# Altium integrated library Analog Devices RF IF Modulators and Demodulators.IntLib: 86 symbols (part 2 of 8)
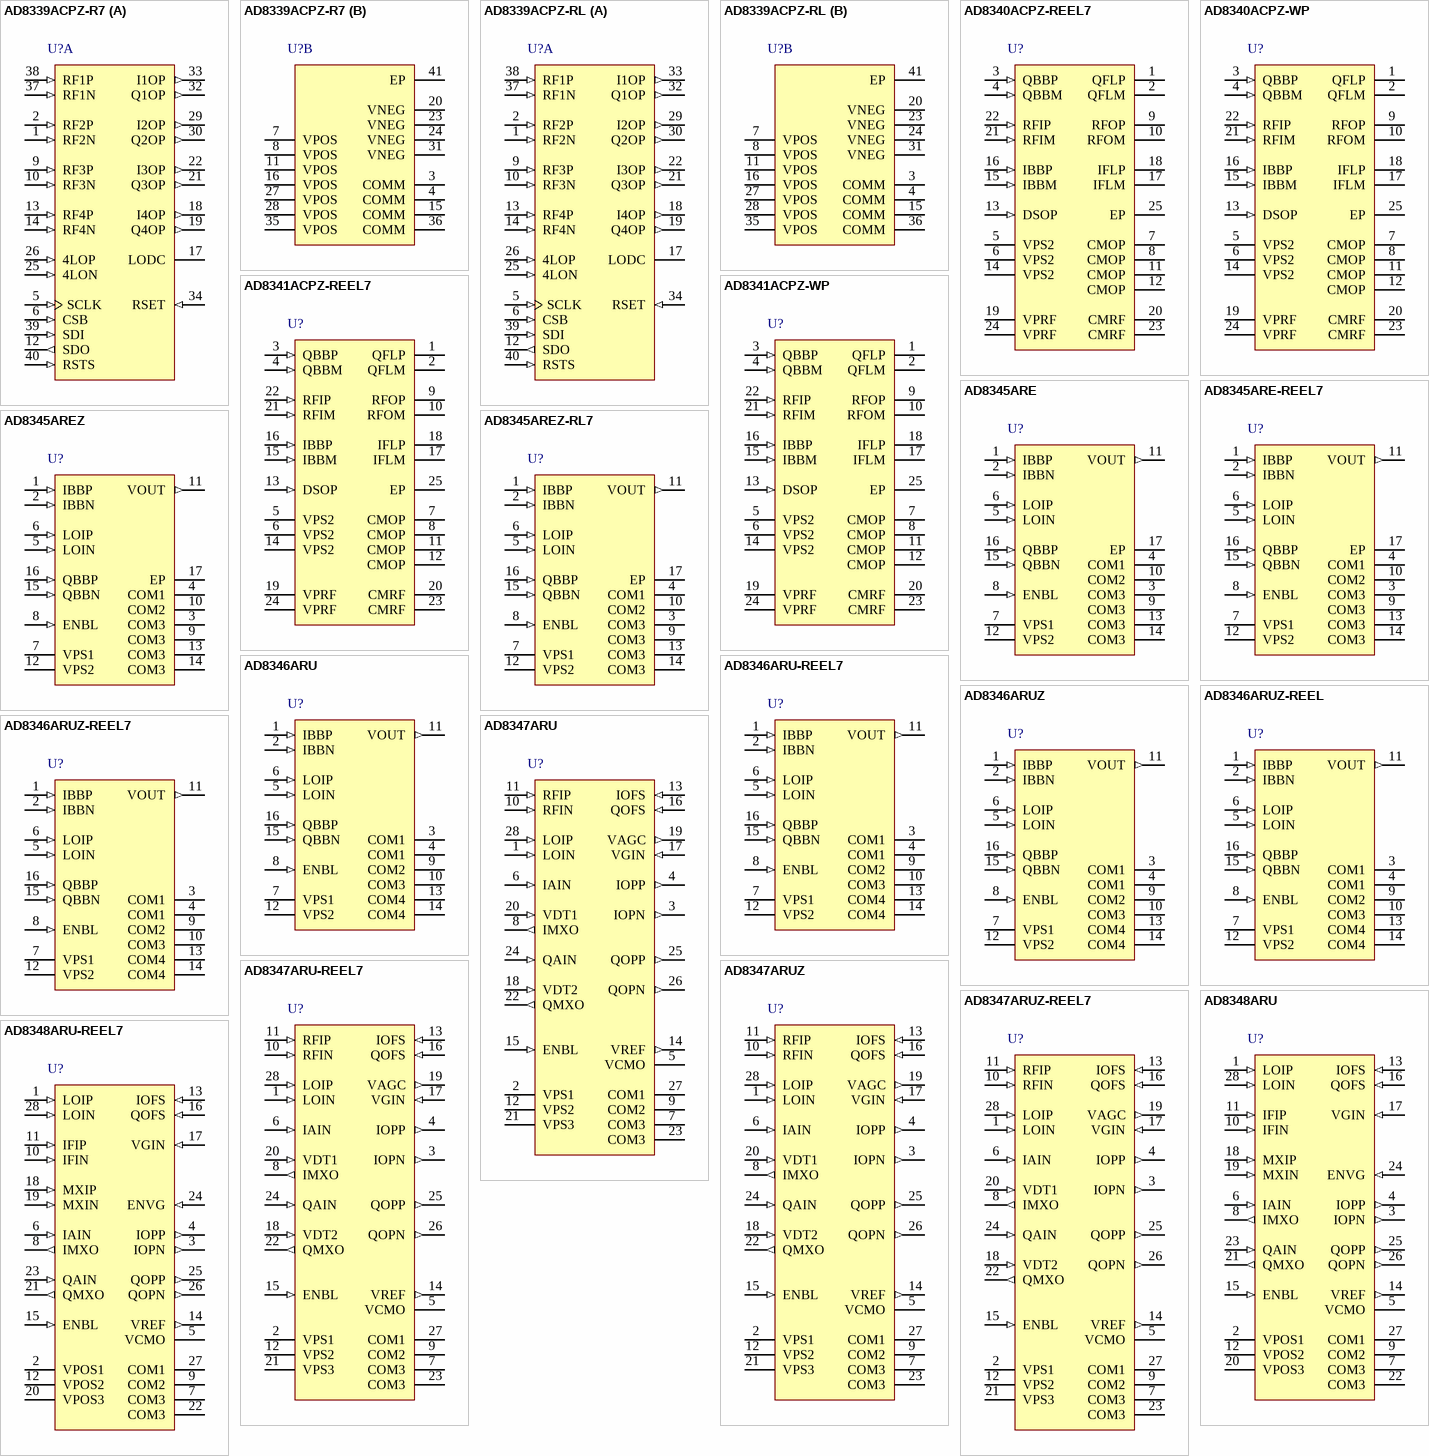
[diagram p6: symbols AD8339ACPZ-R7 to AD8348ARU-REEL7]

## AD8339ACPZ-RL
designator U?
DC to 50 MHz, Quad I/Q Demodulator and Phase Shifter, CP-40-1, Pb-Free, 2500 Reel; Min RF Frequency (MHz): 0Hz; Max RF Frequency (MHz): 50MHz; Phase Error (deg): 1Deg; Amplitude Error (dB): 250mdB; IIP3 (+dBm): 31dBm; DatasheetVersion: Rev. A; PackageVersion: Oct-2006; PackageReference: CP-40-1; PackageDescription: 40-Lead Lead Frame Chip Scale Package [LFCSP_VQ]; IQ Freq (MHz): 50MHz; Code_JEDEC: MO-220-VJJD-2; ComponentLink1Description: Manufacturer URL; ComponentLink1URL: www.analog.com; ComponentLink2Description: Datasheet; ComponentLink2URL: http://www.analog.com/static/imported-files/data_sheets/AD8339.pdf; ComponentLink3Description: Package Specification; ComponentLink3URL: http://www.analog.com/static/imported-files/packages/PKG_PDF/LFCSP(CP)/CP_40_1.pdf
footprint ADI-CP-40-1_N (QFN, 40-Leads, Body 6x6mm, Pitch 0.5mm, Thermal Pad 4.3x4.3mm, IPC Medium Density)
footprint ADI-CP-40-1_L (QFN, 40-Leads, Body 6x6mm, Pitch 0.5mm, Thermal Pad 4.3x4.3mm, IPC High Density)
footprint ADI-CP-40-1_M (QFN, 40-Leads, Body 6x6mm, Pitch 0.5mm, Thermal Pad 4.3x4.3mm, IPC Low Density)
part A pins: 1 RF2N (in) "RF Inputs. Require external 2.5 V bias for optimum symmetrical input differential swing if +/-5 V supplies are used.", 2 RF2P (in) "RF Inputs. Require external 2.5 V bias for optimum symmetrical input differential swing if +/-5 V supplies are used.", 5 SCLK (in) "Serial Interface Clock.", 6 CSB (in) "Serial Interface Chip Select Bar. Active low.", 9 RF3P (in) "RF Inputs. Require external 2.5 V bias for optimum symmetrical input differential swing if +/-5 V supplies are used.", 10 RF3N (in) "RF Inputs. Require external 2.5 V bias for optimum symmetrical input differential swing if +/-5 V supplies are used.", 12 SDO (out) "Serial Interface Data Output. Normally connected to the SDI pin of the next chip or left open.", 13 RF4P (in) "RF Inputs. Require external 2.5 V bias for optimum symmetrical input differential swing if +/-5 V supplies are used.", 14 RF4N (in) "RF Inputs. Require external 2.5 V bias for optimum symmetrical input differential swing if +/-5 V supplies are used.", 17 LODC "Decoupling Pin for LO. A 0.1 uF capacitor should be connected between this pin and ground. The value of this capacitor affects the chip enable/disable times.", 18 I4OP (out) "I/Q Outputs. These outputs provide a bidirectional current that can be converted back to a voltage via a transimpedance amplifier.[see datasheet]", 19 Q4OP (out) "I/Q Outputs. These outputs provide a bidirectional current that can be converted back to a voltage via a transimpedance amplifier.[see datasheet]", 21 Q3OP (out) "I/Q Outputs. These outputs provide a bidirectional current that can be converted back to a voltage via a transimpedance amplifier.[see datasheet]", 22 I3OP (out) "I/Q Outputs. These outputs provide a bidirectional current that can be converted back to a voltage via a transimpedance amplifier.[see datasheet]", 25 4LON (in) "LO Inputs. No internal bias; optimally biased by an LVDS driver. For best performance, these inputs should be driven differentially.[see datasheet]", 26 4LOP (in) "LO Inputs. No internal bias; optimally biased by an LVDS driver. For best performance, these inputs should be driven differentially.[see datasheet]", 29 I2OP (out) "I/Q Outputs. These outputs provide a bidirectional current that can be converted back to a voltage via a transimpedance amplifier.[see datasheet]", 30 Q2OP (out) "I/Q Outputs. These outputs provide a bidirectional current that can be converted back to a voltage via a transimpedance amplifier.[see datasheet]", 32 Q1OP (out) "I/Q Outputs. These outputs provide a bidirectional current that can be converted back to a voltage via a transimpedance amplifier.[see datasheet]", 33 I1OP (out) "I/Q Outputs. These outputs provide a bidirectional current that can be converted back to a voltage via a transimpedance amplifier.[see datasheet]", 34 RSET (in) "Reset for LO Interface. Logic threshold is at ~1.3 V and therefore can be driven by >1.8 V CMOS logic.", 37 RF1N (in) "RF Inputs. Require external 2.5 V bias for optimum symmetrical input differential swing if +/-5 V supplies are used.", 38 RF1P (in) "RF Inputs. Require external 2.5 V bias for optimum symmetrical input differential swing if +/-5 V supplies are used.", 39 SDI (in) "Serial Interface Data Input. Logic threshold is at ~1.3 V and therefore can be driven by >1.8 V CMOS logic.", 40 RSTS (in) "Reset for SPI Interface. Logic threshold is at ~1.5 V with +/-0.3 V hysteresis and should be driven by >3.3 V CMOS logic.[see dstssheet]"
part B pins: 3 COMM (power) "Ground.", 4 COMM (power) "Ground.", 7 VPOS (power) "Positive Supply. These pins should be decoupled with a ferrite bead in series with the supply and a 0.1 uF capacitor between the VPOS pins and ground.[see datasheet]", 8 VPOS (power) "Positive Supply. These pins should be decoupled with a ferrite bead in series with the supply and a 0.1 uF capacitor between the VPOS pins and ground. [see datasheet]", 11 VPOS (power) "Positive Supply. These pins should be decoupled with a ferrite bead in series with the supply and a 0.1 uF capacitor between the VPOS pins and ground.[see datasheet]", 15 COMM (power) "Ground.", 16 VPOS (power) "Positive Supply. These pins should be decoupled with a ferrite bead in series with the supply and a 0.1 uF capacitor between the VPOS pins and ground.[see datasheet]", 20 VNEG (power) "Negative Supply. These pins should be decoupled with a ferrite bead in series with the supply and a 0.1 uF capacitor between the VNEG pins and ground.[see datasheet]", 23 VNEG (power) "Negative Supply. These pins should be decoupled with a ferrite bead in series with the supply and a 0.1 uF capacitor between the VNEG pins and ground.[see datasheet]", 24 VNEG (power) "Negative Supply. These pins should be decoupled with a ferrite bead in series with the supply and a 0.1 uF capacitor between the VNEG pins and ground.[see datasheet]", 27 VPOS (power) "Positive Supply. These pins should be decoupled with a ferrite bead in series with the supply and a 0.1 uF capacitor between the VPOS pins and ground. [see datasheet]", 28 VPOS (power) "Positive Supply. These pins should be decoupled with a ferrite bead in series with the supply and a 0.1 uF capacitor between the VPOS pins and ground. [see datasheet]", 31 VNEG (power) "Negative Supply. These pins should be decoupled with a ferrite bead in series with the supply and a 0.1 uF capacitor between the VNEG pins and ground.[see datasheet]", 35 VPOS (power) "Positive Supply. These pins should be decoupled with a ferrite bead in series with the supply and a 0.1 uF capacitor between the VPOS pins and ground.[see datasheet]", 36 COMM (power) "Ground.", 41 EP (power) "Exposed Pad. The exposed pad is not connected internally.[see dstssheet]"

## AD8340ACPZ-REEL7
designator U?
700 MHz to 1000 MHz RF Vector Modulator, CP-24-1, Pb-Free, 1500 	Reel; Min RF Frequency (MHz): 700MHz; Max RF Frequency (MHz): 1GHz; IQ Freq (MHz): 230MHz; Output P1dB (dBm): 11; DatasheetVersion: RevB; PackageVersion: May-2004; PackageReference: CP-24-1; PackageDescription: 24-Lead Lead Frame Chip Scale Package [LFCSP]; Code_JEDEC: MO-220-VGGD-2; ComponentLink1Description: Manufacturer URL; ComponentLink1URL: www.analog.com; ComponentLink2Description: Datasheet; ComponentLink2URL: http://www.analog.com/static/imported-files/data_sheets/AD8340.pdf; ComponentLink3Description: Package Specification; ComponentLink3URL: http://www.analog.com/static/imported-files/packages/CP_24_1.pdf
footprint ADI-CP-24-1_N (QFN, 24-Leads, Body 4x4mm, Pitch 0.5mm, Thermal Pad 2.1x2.1mm, IPC Medium Density)
footprint ADI-CP-24-1_L (QFN, 24-Leads, Body 4x4mm, Pitch 0.5mm, Thermal Pad 2.1x2.1mm, IPC High Density)
footprint ADI-CP-24-1_M (QFN, 24-Leads, Body 4x4mm, Pitch 0.5mm, Thermal Pad 2.1x2.1mm, IPC Low Density)
pins: 1 QFLP "Q Baseband Input Filter Pins. Connect optional capacitor to reduce Q baseband channel low-pass corner frequency.", 2 QFLM "Q Baseband Input Filter Pins. Connect optional capacitor to reduce Q baseband channel low-pass corner frequency.", 3 QBBP (in) "Q Channel Differential Baseband Inputs.", 4 QBBM (in) "Q Channel Differential Baseband Inputs.", 5 VPS2 (power) "Positive Supply Voltage, 4.75 V to 5.25 V.", 6 VPS2 (power) "Positive Supply Voltage, 4.75 V to 5.25 V.", 7 CMOP (power) "Device Common. Connect via lowest possible impedance to external circuit common.", 8 CMOP (power) "Device Common. Connect via lowest possible impedance to external circuit common.", 9 RFOP (oc) "Differential RF Outputs. Must be ac-coupled. Differential impedance 50  ohm nominal.", 10 RFOM (oc) "Differential RF Outputs. Must be ac-coupled. Differential impedance 50  ohm nominal.", 11 CMOP (power) "Device Common. Connect via lowest possible impedance to external circuit common.", 12 CMOP (power) "Device Common. Connect via lowest possible impedance to external circuit common.", 13 DSOP (in) "Output Disable. Pull high to disable output stage.", 14 VPS2 (power) "Positive Supply Voltage, 4.75 V to 5.25 V.", 15 IBBM (in) "I Channel Differential Baseband Inputs.", 16 IBBP (in) "I Channel Differential Baseband Inputs.", 17 IFLM "I Baseband Input Filter Pins. Connect optional capacitor to reduce I baseband channel low-pass corner frequency.", 18 IFLP "I Baseband Input Filter Pins. Connect optional capacitor to reduce I baseband channel low-pass corner frequency.", 19 VPRF (power) "Positive Supply Voltage, 4.75 V to 5.25 V.", 20 CMRF (power) "Device Common. Connect via lowest possible impedance to external circuit common.", 21 RFIM (in) "Differential RF Inputs. Must be ac-coupled. Differential impedance 50  ohm nominal.", 22 RFIP (in) "Differential RF Inputs. Must be ac-coupled. Differential impedance 50  ohm nominal.", 23 CMRF (power) "Device Common. Connect via lowest possible impedance to external circuit common.", 24 VPRF (power) "Positive Supply Voltage, 4.75 V to 5.25 V.", 25 EP (power) "Exposed Pad"

## AD8340ACPZ-WP
designator U?
700 MHz to 1000 MHz RF Vector Modulator, CP-24-1, Pb-Free, 64 	Tray; Min RF Frequency (MHz): 700MHz; Max RF Frequency (MHz): 1GHz; IQ Freq (MHz): 230MHz; Output P1dB (dBm): 11; DatasheetVersion: RevB; PackageVersion: May-2004; PackageReference: CP-24-1; PackageDescription: 24-Lead Lead Frame Chip Scale Package [LFCSP]; Code_JEDEC: MO-220-VGGD-2; ComponentLink1Description: Manufacturer URL; ComponentLink1URL: www.analog.com; ComponentLink2Description: Datasheet; ComponentLink2URL: http://www.analog.com/static/imported-files/data_sheets/AD8340.pdf; ComponentLink3Description: Package Specification; ComponentLink3URL: http://www.analog.com/static/imported-files/packages/CP_24_1.pdf
footprint ADI-CP-24-1_N (QFN, 24-Leads, Body 4x4mm, Pitch 0.5mm, Thermal Pad 2.1x2.1mm, IPC Medium Density)
footprint ADI-CP-24-1_L (QFN, 24-Leads, Body 4x4mm, Pitch 0.5mm, Thermal Pad 2.1x2.1mm, IPC High Density)
footprint ADI-CP-24-1_M (QFN, 24-Leads, Body 4x4mm, Pitch 0.5mm, Thermal Pad 2.1x2.1mm, IPC Low Density)
pins: 1 QFLP "Q Baseband Input Filter Pins. Connect optional capacitor to reduce Q baseband channel low-pass corner frequency.", 2 QFLM "Q Baseband Input Filter Pins. Connect optional capacitor to reduce Q baseband channel low-pass corner frequency.", 3 QBBP (in) "Q Channel Differential Baseband Inputs.", 4 QBBM (in) "Q Channel Differential Baseband Inputs.", 5 VPS2 (power) "Positive Supply Voltage, 4.75 V to 5.25 V.", 6 VPS2 (power) "Positive Supply Voltage, 4.75 V to 5.25 V.", 7 CMOP (power) "Device Common. Connect via lowest possible impedance to external circuit common.", 8 CMOP (power) "Device Common. Connect via lowest possible impedance to external circuit common.", 9 RFOP (oc) "Differential RF Outputs. Must be ac-coupled. Differential impedance 50  ohm nominal.", 10 RFOM (oc) "Differential RF Outputs. Must be ac-coupled. Differential impedance 50  ohm nominal.", 11 CMOP (power) "Device Common. Connect via lowest possible impedance to external circuit common.", 12 CMOP (power) "Device Common. Connect via lowest possible impedance to external circuit common.", 13 DSOP (in) "Output Disable. Pull high to disable output stage.", 14 VPS2 (power) "Positive Supply Voltage, 4.75 V to 5.25 V.", 15 IBBM (in) "I Channel Differential Baseband Inputs.", 16 IBBP (in) "I Channel Differential Baseband Inputs.", 17 IFLM "I Baseband Input Filter Pins. Connect optional capacitor to reduce I baseband channel low-pass corner frequency.", 18 IFLP "I Baseband Input Filter Pins. Connect optional capacitor to reduce I baseband channel low-pass corner frequency.", 19 VPRF (power) "Positive Supply Voltage, 4.75 V to 5.25 V.", 20 CMRF (power) "Device Common. Connect via lowest possible impedance to external circuit common.", 21 RFIM (in) "Differential RF Inputs. Must be ac-coupled. Differential impedance 50  ohm nominal.", 22 RFIP (in) "Differential RF Inputs. Must be ac-coupled. Differential impedance 50  ohm nominal.", 23 CMRF (power) "Device Common. Connect via lowest possible impedance to external circuit common.", 24 VPRF (power) "Positive Supply Voltage, 4.75 V to 5.25 V.", 25 EP (power) "Exposed Pad"

## AD8341ACPZ-REEL7
designator U?
1.5 GHz to 2.4 GHz RF Vector Modulator, CP-24-1, Pb-Free, 1500 	Reel; Min RF Frequency (MHz): 1.5GHz; Max RF Frequency (MHz): 2.4GHz; IQ Freq (MHz): 230MHz; Output P1dB (dBm): 8.5; DatasheetVersion: Rev0; PackageVersion: May-2004; PackageReference: CP-24-1; PackageDescription: 24-Lead Lead Frame Chip Scale Package [LFCSP]; Code_JEDEC: MO-220-VGGD-2; ComponentLink1Description: Manufacturer URL; ComponentLink1URL: www.analog.com; ComponentLink2Description: Datasheet; ComponentLink2URL: http://www.analog.com/static/imported-files/data_sheets/AD8341.pdf; ComponentLink3Description: Package Specification; ComponentLink3URL: http://www.analog.com/static/imported-files/packages/CP_24_1.pdf
footprint ADI-CP-24-1_N (QFN, 24-Leads, Body 4x4mm, Pitch 0.5mm, Thermal Pad 2.1x2.1mm, IPC Medium Density)
footprint ADI-CP-24-1_L (QFN, 24-Leads, Body 4x4mm, Pitch 0.5mm, Thermal Pad 2.1x2.1mm, IPC High Density)
footprint ADI-CP-24-1_M (QFN, 24-Leads, Body 4x4mm, Pitch 0.5mm, Thermal Pad 2.1x2.1mm, IPC Low Density)
pins: 1 QFLP "Q Baseband Input Filter Pins. Connect optional capacitor to reduce Q baseband channel low-pass corner frequency.", 2 QFLM "Q Baseband Input Filter Pins. Connect optional capacitor to reduce Q baseband channel low-pass corner frequency.", 3 QBBP (in) "Q Channel Differential Baseband Inputs.", 4 QBBM (in) "Q Channel Differential Baseband Inputs.", 5 VPS2 (power) "Positive Supply Voltage. 4.75 V - 5.25 V.", 6 VPS2 (power) "Positive Supply Voltage. 4.75 V - 5.25 V.", 7 CMOP (power) "Device Common. Connect via lowest possible impedance to external circuit common.", 8 CMOP (power) "Device Common. Connect via lowest possible impedance to external circuit common.", 9 RFOP (oc) "Differential RF Outputs. Must be ac-coupled. Differential impedance 50  ohm nominal.", 10 RFOM (oc) "Differential RF Outputs. Must be ac-coupled. Differential impedance 50  ohm nominal.", 11 CMOP (power) "Device Common. Connect via lowest possible impedance to external circuit common.", 12 CMOP (power) "Device Common. Connect via lowest possible impedance to external circuit common.", 13 DSOP (in) "Output disable. Pull high to disable output stage.", 14 VPS2 (power) "Positive Supply Voltage. 4.75 V - 5.25 V.", 15 IBBM (in) "I Channel Differential Baseband Inputs.", 16 IBBP (in) "I Channel Differential Baseband Inputs.", 17 IFLM "I Baseband Input Filter Pins. Connect optional capacitor to reduce I baseband channel low-pass corner frequency.", 18 IFLP "I Baseband Input Filter Pins. Connect optional capacitor to reduce I baseband channel low-pass corner frequency.", 19 VPRF (power) "Positive Supply Voltage. 4.75 V - 5.25 V.", 20 CMRF (power) "Device Common. Connect via lowest possible impedance to external circuit common.", 21 RFIM (in) "Differential RF Inputs. Must be ac-coupled. Differential impedance 50  ohm nominal.", 22 RFIP (in) "Differential RF Inputs. Must be ac-coupled. Differential impedance 50  ohm nominal.", 23 CMRF (power) "Device Common. Connect via lowest possible impedance to external circuit common.", 24 VPRF (power) "Positive Supply Voltage. 4.75 V - 5.25 V.", 25 EP (power) "Exposed Pad"

## AD8341ACPZ-WP
designator U?
1.5 GHz to 2.4 GHz RF Vector Modulator, CP-24-1, Pb-Free, 64 	Tray; Min RF Frequency (MHz): 1.5GHz; Max RF Frequency (MHz): 2.4GHz; IQ Freq (MHz): 230MHz; Output P1dB (dBm): 8.5; DatasheetVersion: Rev0; PackageVersion: May-2004; PackageReference: CP-24-1; PackageDescription: 24-Lead Lead Frame Chip Scale Package [LFCSP]; Code_JEDEC: MO-220-VGGD-2; ComponentLink1Description: Manufacturer URL; ComponentLink1URL: www.analog.com; ComponentLink2Description: Datasheet; ComponentLink2URL: http://www.analog.com/static/imported-files/data_sheets/AD8341.pdf; ComponentLink3Description: Package Specification; ComponentLink3URL: http://www.analog.com/static/imported-files/packages/CP_24_1.pdf
footprint ADI-CP-24-1_N (QFN, 24-Leads, Body 4x4mm, Pitch 0.5mm, Thermal Pad 2.1x2.1mm, IPC Medium Density)
footprint ADI-CP-24-1_L (QFN, 24-Leads, Body 4x4mm, Pitch 0.5mm, Thermal Pad 2.1x2.1mm, IPC High Density)
footprint ADI-CP-24-1_M (QFN, 24-Leads, Body 4x4mm, Pitch 0.5mm, Thermal Pad 2.1x2.1mm, IPC Low Density)
pins: 1 QFLP "Q Baseband Input Filter Pins. Connect optional capacitor to reduce Q baseband channel low-pass corner frequency.", 2 QFLM "Q Baseband Input Filter Pins. Connect optional capacitor to reduce Q baseband channel low-pass corner frequency.", 3 QBBP (in) "Q Channel Differential Baseband Inputs.", 4 QBBM (in) "Q Channel Differential Baseband Inputs.", 5 VPS2 (power) "Positive Supply Voltage. 4.75 V - 5.25 V.", 6 VPS2 (power) "Positive Supply Voltage. 4.75 V - 5.25 V.", 7 CMOP (power) "Device Common. Connect via lowest possible impedance to external circuit common.", 8 CMOP (power) "Device Common. Connect via lowest possible impedance to external circuit common.", 9 RFOP (oc) "Differential RF Outputs. Must be ac-coupled. Differential impedance 50  ohm nominal.", 10 RFOM (oc) "Differential RF Outputs. Must be ac-coupled. Differential impedance 50  ohm nominal.", 11 CMOP (power) "Device Common. Connect via lowest possible impedance to external circuit common.", 12 CMOP (power) "Device Common. Connect via lowest possible impedance to external circuit common.", 13 DSOP (in) "Output disable. Pull high to disable output stage.", 14 VPS2 (power) "Positive Supply Voltage. 4.75 V - 5.25 V.", 15 IBBM (in) "I Channel Differential Baseband Inputs.", 16 IBBP (in) "I Channel Differential Baseband Inputs.", 17 IFLM "I Baseband Input Filter Pins. Connect optional capacitor to reduce I baseband channel low-pass corner frequency.", 18 IFLP "I Baseband Input Filter Pins. Connect optional capacitor to reduce I baseband channel low-pass corner frequency.", 19 VPRF (power) "Positive Supply Voltage. 4.75 V - 5.25 V.", 20 CMRF (power) "Device Common. Connect via lowest possible impedance to external circuit common.", 21 RFIM (in) "Differential RF Inputs. Must be ac-coupled. Differential impedance 50  ohm nominal.", 22 RFIP (in) "Differential RF Inputs. Must be ac-coupled. Differential impedance 50  ohm nominal.", 23 CMRF (power) "Device Common. Connect via lowest possible impedance to external circuit common.", 24 VPRF (power) "Positive Supply Voltage. 4.75 V - 5.25 V.", 25 EP (power) "Exposed Pad"

## AD8345ARE
designator U?
140 MHz to 1000 MHz Quadrature Modulator, RE-16-2, 96 Tube; Min RF Frequency (MHz): 140MHz; Max RF Frequency (MHz): 1GHz; IQ Freq (MHz): 80MHz; Output P1dB (dBm): 2.5; DatasheetVersion: RevB; PackageVersion: 050806-A; PackageReference: RE-16-2; PackageDescription: 16-Lead Thin Shrink Small Outline With Exposed Pad [TSSOP_EP]; Code_JEDEC: MO-153-ABT; ComponentLink1Description: Manufacturer URL; ComponentLink1URL: www.analog.com; ComponentLink2Description: Datasheet; ComponentLink2URL: http://www.analog.com/static/imported-files/data_sheets/AD8345.pdf; ComponentLink3Description: Package Specification; ComponentLink3URL: http://www.analog.com/static/imported-files/packages/PKG_PDF/TSSOP_EP(RE)/RE_16_2.pdf
footprint ADI-RE-16-2_N (TSOP, 16-Leads, Body 5x4.4mm, Pitch 0.65mm, Thermal Pad, IPC Medium Density)
footprint ADI-RE-16-2_L (TSOP, 16-Leads, Body 5x4.4mm, Pitch 0.65mm, Thermal Pad, IPC High Density)
footprint ADI-RE-16-2_M (TSOP, 16-Leads, Body 5x4.4mm, Pitch 0.65mm, Thermal Pad, IPC Low Density)
pins: 1 IBBP (in) "I Channel Baseband Differential Input Pins. These high impedance inputs should be dc-biased to approximately 0.7 V. Nominal characterized ac swing is 0.6 V p-p on each pin (0.4 V to 1 V). [see datasheet]", 2 IBBN (in) "I Channel Baseband Differential Input Pins. These high impedance inputs should be dc-biased to approximately 0.7 V. Nominal characterized ac swing is 0.6 V p-p on each pin (0.4 V to 1 V). [see datasheet]", 3 COM3 (power) "Ground Pin for Input V-to-I Converters and Mixer Core.", 4 COM1 (power) "Ground Pin for the LO Phase Splitter and LO Buffers.", 5 LOIN (in) "Differential LO Drive Pins. Internal dc bias (approximately 1.8 V @ VS = 5 V) is supplied. Pins must be ac-coupled. Single-ended or differential drive is permissible.", 6 LOIP (in) "Differential LO Drive Pins. Internal dc bias (approximately 1.8 V @ VS = 5 V) is supplied. Pins must be ac-coupled. Single-ended or differential drive is permissible.", 7 VPS1 (power) "Power Supply Pin for the Bias Cell and LO Buffers. This pin should be decoupled using local 1000 pF and 0.01 uF capacitors.", 8 ENBL (in) "Enable Pin. A high level enables the device; a low level puts the device in sleep mode.", 9 COM3 (power) "Ground Pin for Input V-to-I Converters and Mixer Core.", 10 COM2 (power) "Ground Pin for the Output Stage of Output Amplifier.", 11 VOUT (out) "50  ohm DC-Coupled RF Output. Pin should be ac-coupled.", 12 VPS2 (power) "Power Supply Pin for Baseband Input Voltage to Current Converters and Mixer Core. This pin should be decoupled using local 1000 pF and 0.01 uF capacitors.", 13 COM3 (power) "Ground Pin for Input V-to-I Converters and Mixer Core.", 14 COM3 (power) "Ground Pin for Input V-to-I Converters and Mixer Core.", 15 QBBN (in) "Q Channel Baseband Differential Input Pins. Inputs should be dc-biased to approxi-mately 0.7 V. Nominal characterized ac swing is 0.6 V p-p on each pin (0.4 V to 1 V). This gives a differential drive level of 1.2 V p-p. Inputs are not self-biasing, so ex", 16 QBBP (in) "Q Channel Baseband Differential Input Pins. Inputs should be dc-biased to approxi-mately 0.7 V. Nominal characterized ac swing is 0.6 V p-p on each pin (0.4 V to 1 V). This gives a differential drive level of 1.2 V p-p. Inputs are not self-biasing, so ex", 17 EP (power) "Connect to ground plane via a low impedance path."

## AD8345ARE-REEL7
designator U?
140 MHz to 1000 MHz Quadrature Modulator, RE-16-2, 1000 Reel; Min RF Frequency (MHz): 140MHz; Max RF Frequency (MHz): 1GHz; IQ Freq (MHz): 80MHz; Output P1dB (dBm): 2.5; DatasheetVersion: RevB; PackageVersion: 050806-A; PackageReference: RE-16-2; PackageDescription: 16-Lead Thin Shrink Small Outline With Exposed Pad [TSSOP_EP]; Code_JEDEC: MO-153-ABT; ComponentLink1Description: Manufacturer URL; ComponentLink1URL: www.analog.com; ComponentLink2Description: Datasheet; ComponentLink2URL: http://www.analog.com/static/imported-files/data_sheets/AD8345.pdf; ComponentLink3Description: Package Specification; ComponentLink3URL: http://www.analog.com/static/imported-files/packages/PKG_PDF/TSSOP_EP(RE)/RE_16_2.pdf
footprint ADI-RE-16-2_N (TSOP, 16-Leads, Body 5x4.4mm, Pitch 0.65mm, Thermal Pad, IPC Medium Density)
footprint ADI-RE-16-2_L (TSOP, 16-Leads, Body 5x4.4mm, Pitch 0.65mm, Thermal Pad, IPC High Density)
footprint ADI-RE-16-2_M (TSOP, 16-Leads, Body 5x4.4mm, Pitch 0.65mm, Thermal Pad, IPC Low Density)
pins: 1 IBBP (in) "I Channel Baseband Differential Input Pins. These high impedance inputs should be dc-biased to approximately 0.7 V. Nominal characterized ac swing is 0.6 V p-p on each pin (0.4 V to 1 V). [see datasheet]", 2 IBBN (in) "I Channel Baseband Differential Input Pins. These high impedance inputs should be dc-biased to approximately 0.7 V. Nominal characterized ac swing is 0.6 V p-p on each pin (0.4 V to 1 V). [see datasheet]", 3 COM3 (power) "Ground Pin for Input V-to-I Converters and Mixer Core.", 4 COM1 (power) "Ground Pin for the LO Phase Splitter and LO Buffers.", 5 LOIN (in) "Differential LO Drive Pins. Internal dc bias (approximately 1.8 V @ VS = 5 V) is supplied. Pins must be ac-coupled. Single-ended or differential drive is permissible.", 6 LOIP (in) "Differential LO Drive Pins. Internal dc bias (approximately 1.8 V @ VS = 5 V) is supplied. Pins must be ac-coupled. Single-ended or differential drive is permissible.", 7 VPS1 (power) "Power Supply Pin for the Bias Cell and LO Buffers. This pin should be decoupled using local 1000 pF and 0.01 uF capacitors.", 8 ENBL (in) "Enable Pin. A high level enables the device; a low level puts the device in sleep mode.", 9 COM3 (power) "Ground Pin for Input V-to-I Converters and Mixer Core.", 10 COM2 (power) "Ground Pin for the Output Stage of Output Amplifier.", 11 VOUT (out) "50  ohm DC-Coupled RF Output. Pin should be ac-coupled.", 12 VPS2 (power) "Power Supply Pin for Baseband Input Voltage to Current Converters and Mixer Core. This pin should be decoupled using local 1000 pF and 0.01 uF capacitors.", 13 COM3 (power) "Ground Pin for Input V-to-I Converters and Mixer Core.", 14 COM3 (power) "Ground Pin for Input V-to-I Converters and Mixer Core.", 15 QBBN (in) "Q Channel Baseband Differential Input Pins. Inputs should be dc-biased to approxi-mately 0.7 V. Nominal characterized ac swing is 0.6 V p-p on each pin (0.4 V to 1 V). This gives a differential drive level of 1.2 V p-p. Inputs are not self-biasing, so ex", 16 QBBP (in) "Q Channel Baseband Differential Input Pins. Inputs should be dc-biased to approxi-mately 0.7 V. Nominal characterized ac swing is 0.6 V p-p on each pin (0.4 V to 1 V). This gives a differential drive level of 1.2 V p-p. Inputs are not self-biasing, so ex", 17 EP (power) "Connect to ground plane via a low impedance path."

## AD8345AREZ
designator U?
140 MHz to 1000 MHz Quadrature Modulator, RE-16-2, Pb-Free, 96 Tube; Min RF Frequency (MHz): 140MHz; Max RF Frequency (MHz): 1GHz; IQ Freq (MHz): 80MHz; Output P1dB (dBm): 2.5; DatasheetVersion: RevB; PackageVersion: 050806-A; PackageReference: RE-16-2; PackageDescription: 16-Lead Thin Shrink Small Outline With Exposed Pad [TSSOP_EP]; Code_JEDEC: MO-153-ABT; ComponentLink1Description: Manufacturer URL; ComponentLink1URL: www.analog.com; ComponentLink2Description: Datasheet; ComponentLink2URL: http://www.analog.com/static/imported-files/data_sheets/AD8345.pdf; ComponentLink3Description: Package Specification; ComponentLink3URL: http://www.analog.com/static/imported-files/packages/PKG_PDF/TSSOP_EP(RE)/RE_16_2.pdf
footprint ADI-RE-16-2_N (TSOP, 16-Leads, Body 5x4.4mm, Pitch 0.65mm, Thermal Pad, IPC Medium Density)
footprint ADI-RE-16-2_L (TSOP, 16-Leads, Body 5x4.4mm, Pitch 0.65mm, Thermal Pad, IPC High Density)
footprint ADI-RE-16-2_M (TSOP, 16-Leads, Body 5x4.4mm, Pitch 0.65mm, Thermal Pad, IPC Low Density)
pins: 1 IBBP (in) "I Channel Baseband Differential Input Pins. These high impedance inputs should be dc-biased to approximately 0.7 V. Nominal characterized ac swing is 0.6 V p-p on each pin (0.4 V to 1 V). [see datasheet]", 2 IBBN (in) "I Channel Baseband Differential Input Pins. These high impedance inputs should be dc-biased to approximately 0.7 V. Nominal characterized ac swing is 0.6 V p-p on each pin (0.4 V to 1 V). [see datasheet]", 3 COM3 (power) "Ground Pin for Input V-to-I Converters and Mixer Core.", 4 COM1 (power) "Ground Pin for the LO Phase Splitter and LO Buffers.", 5 LOIN (in) "Differential LO Drive Pins. Internal dc bias (approximately 1.8 V @ VS = 5 V) is supplied. Pins must be ac-coupled. Single-ended or differential drive is permissible.", 6 LOIP (in) "Differential LO Drive Pins. Internal dc bias (approximately 1.8 V @ VS = 5 V) is supplied. Pins must be ac-coupled. Single-ended or differential drive is permissible.", 7 VPS1 (power) "Power Supply Pin for the Bias Cell and LO Buffers. This pin should be decoupled using local 1000 pF and 0.01 uF capacitors.", 8 ENBL (in) "Enable Pin. A high level enables the device; a low level puts the device in sleep mode.", 9 COM3 (power) "Ground Pin for Input V-to-I Converters and Mixer Core.", 10 COM2 (power) "Ground Pin for the Output Stage of Output Amplifier.", 11 VOUT (out) "50  ohm DC-Coupled RF Output. Pin should be ac-coupled.", 12 VPS2 (power) "Power Supply Pin for Baseband Input Voltage to Current Converters and Mixer Core. This pin should be decoupled using local 1000 pF and 0.01 uF capacitors.", 13 COM3 (power) "Ground Pin for Input V-to-I Converters and Mixer Core.", 14 COM3 (power) "Ground Pin for Input V-to-I Converters and Mixer Core.", 15 QBBN (in) "Q Channel Baseband Differential Input Pins. Inputs should be dc-biased to approxi-mately 0.7 V. Nominal characterized ac swing is 0.6 V p-p on each pin (0.4 V to 1 V). This gives a differential drive level of 1.2 V p-p. Inputs are not self-biasing, so ex", 16 QBBP (in) "Q Channel Baseband Differential Input Pins. Inputs should be dc-biased to approxi-mately 0.7 V. Nominal characterized ac swing is 0.6 V p-p on each pin (0.4 V to 1 V). This gives a differential drive level of 1.2 V p-p. Inputs are not self-biasing, so ex", 17 EP (power) "Connect to ground plane via a low impedance path."

## AD8345AREZ-RL7
designator U?
140 MHz to 1000 MHz Quadrature Modulator, RE-16-2, Pb-Free, 1000 Reel; Min RF Frequency (MHz): 140MHz; Max RF Frequency (MHz): 1GHz; IQ Freq (MHz): 80MHz; Output P1dB (dBm): 2.5; DatasheetVersion: RevB; PackageVersion: 050806-A; PackageReference: RE-16-2; PackageDescription: 16-Lead Thin Shrink Small Outline With Exposed Pad [TSSOP_EP]; Code_JEDEC: MO-153-ABT; ComponentLink1Description: Manufacturer URL; ComponentLink1URL: www.analog.com; ComponentLink2Description: Datasheet; ComponentLink2URL: http://www.analog.com/static/imported-files/data_sheets/AD8345.pdf; ComponentLink3Description: Package Specification; ComponentLink3URL: http://www.analog.com/static/imported-files/packages/PKG_PDF/TSSOP_EP(RE)/RE_16_2.pdf
footprint ADI-RE-16-2_N (TSOP, 16-Leads, Body 5x4.4mm, Pitch 0.65mm, Thermal Pad, IPC Medium Density)
footprint ADI-RE-16-2_L (TSOP, 16-Leads, Body 5x4.4mm, Pitch 0.65mm, Thermal Pad, IPC High Density)
footprint ADI-RE-16-2_M (TSOP, 16-Leads, Body 5x4.4mm, Pitch 0.65mm, Thermal Pad, IPC Low Density)
pins: 1 IBBP (in) "I Channel Baseband Differential Input Pins. These high impedance inputs should be dc-biased to approximately 0.7 V. Nominal characterized ac swing is 0.6 V p-p on each pin (0.4 V to 1 V). [see datasheet]", 2 IBBN (in) "I Channel Baseband Differential Input Pins. These high impedance inputs should be dc-biased to approximately 0.7 V. Nominal characterized ac swing is 0.6 V p-p on each pin (0.4 V to 1 V). [see datasheet]", 3 COM3 (power) "Ground Pin for Input V-to-I Converters and Mixer Core.", 4 COM1 (power) "Ground Pin for the LO Phase Splitter and LO Buffers.", 5 LOIN (in) "Differential LO Drive Pins. Internal dc bias (approximately 1.8 V @ VS = 5 V) is supplied. Pins must be ac-coupled. Single-ended or differential drive is permissible.", 6 LOIP (in) "Differential LO Drive Pins. Internal dc bias (approximately 1.8 V @ VS = 5 V) is supplied. Pins must be ac-coupled. Single-ended or differential drive is permissible.", 7 VPS1 (power) "Power Supply Pin for the Bias Cell and LO Buffers. This pin should be decoupled using local 1000 pF and 0.01 uF capacitors.", 8 ENBL (in) "Enable Pin. A high level enables the device; a low level puts the device in sleep mode.", 9 COM3 (power) "Ground Pin for Input V-to-I Converters and Mixer Core.", 10 COM2 (power) "Ground Pin for the Output Stage of Output Amplifier.", 11 VOUT (out) "50  ohm DC-Coupled RF Output. Pin should be ac-coupled.", 12 VPS2 (power) "Power Supply Pin for Baseband Input Voltage to Current Converters and Mixer Core. This pin should be decoupled using local 1000 pF and 0.01 uF capacitors.", 13 COM3 (power) "Ground Pin for Input V-to-I Converters and Mixer Core.", 14 COM3 (power) "Ground Pin for Input V-to-I Converters and Mixer Core.", 15 QBBN (in) "Q Channel Baseband Differential Input Pins. Inputs should be dc-biased to approxi-mately 0.7 V. Nominal characterized ac swing is 0.6 V p-p on each pin (0.4 V to 1 V). This gives a differential drive level of 1.2 V p-p. Inputs are not self-biasing, so ex", 16 QBBP (in) "Q Channel Baseband Differential Input Pins. Inputs should be dc-biased to approxi-mately 0.7 V. Nominal characterized ac swing is 0.6 V p-p on each pin (0.4 V to 1 V). This gives a differential drive level of 1.2 V p-p. Inputs are not self-biasing, so ex", 17 EP (power) "Connect to ground plane via a low impedance path."

## AD8346ARU
designator U?
0.8 GHz to 2.5 GHz Quadrature Modulator, RU-16, 96 Tube; Min RF Frequency (MHz): 800MHz; Max RF Frequency (MHz): 2.5GHz; IQ Freq (MHz): 70MHz; Output P1dB (dBm): 3; DatasheetVersion: RevA; PackageVersion: Nov-2002; PackageReference: RU-16; PackageDescription: 16-Lead Thin Shrink Small Outline Package [TSSOP]; Code_JEDEC: MO-153AB; ComponentLink1Description: Manufacturer URL; ComponentLink1URL: www.analog.com; ComponentLink2Description: Datasheet; ComponentLink2URL: http://www.analog.com/static/imported-files/data_sheets/AD8346.pdf; ComponentLink3Description: Package Specification; ComponentLink3URL: http://www.analog.com/static/imported-files/packages/36244347913743854010197452789RU16.pdf
footprint ADI-RU-16_N (TSOP, 16-Leads, Body 5x4.4mm, Pitch 0.65mm, IPC Medium Density)
footprint ADI-RU-16_L (TSOP, 16-Leads, Body 5x4.4mm, Pitch 0.65mm, IPC High Density)
footprint ADI-RU-16_M (TSOP, 16-Leads, Body 5x4.4mm, Pitch 0.65mm, IPC Low Density)
pins: 1 IBBP (in) "I Channel Baseband Positive Input Pin. Input should be dc-biased to approximately 1.2 V. Nominal characterized ac swing is 1 V p-p (0.7 V to 1.7 V). [see datasheet]", 2 IBBN (in) "I Channel Baseband Positive Input Pin. Input should be dc-biased to approximately 1.2 V. Nominal characterized ac swing is 1 V p-p (0.7 V to 1.7 V). [see datasheet]", 3 COM1 (power) "Ground Pin for the LO phase splitter and LO buffers.", 4 COM1 (power) "Ground Pin for the LO phase splitter and LO buffers.", 5 LOIN (in) "LO Negative Input Pin. Internal dc bias (approximately VPS1 to 800 mV) is supplied. This pin must be ac coupled.", 6 LOIP (in) "LO Positive Input Pin. Internal dc bias (approximately VPS1 to 800 mV) is supplied. This pin must be ac-coupled", 7 VPS1 (power) "Power Supply Pin for the bias cell and LO buffers. This pin should be decoupled using local 100 pF and 0.01 uF capacitors.", 8 ENBL (in) "Enable Pin. A high level enables the device; a low level puts the device in sleep mode.", 9 COM2 (power) "Ground Pin for the input stage of output amplifier.", 10 COM3 (power) "Ground Pin for the output stage of output amplifier.", 11 VOUT (out) "50  ohm DC-Coupled RF Output. User must provide ac coupling on this pin.", 12 VPS2 (power) "Power Supply Pin for baseband input voltage to current converters and mixer core. This pin should be decoupled using local 100 pF and 0.01 uF capacitors.", 13 COM4 (power) "Ground Pin for baseband input voltage to current converters and mixer core.", 14 COM4 (power) "Ground Pin for baseband input voltage to current converters and mixer core.", 15 QBBN (in) "Q Channel Baseband Negative Input. Input should be dc biased to approximately 1.2 V. Nominal characterized ac swing is 1 V p-p. [see datasheet]", 16 QBBP (in) "Q Channel Baseband Negative Input. Input should be dc biased to approximately 1.2 V. Nominal characterized ac swing is 1 V p-p. [see datasheet]"

## AD8346ARU-REEL7
designator U?
0.8 GHz to 2.5 GHz Quadrature Modulator, RU-16, 1000 Reel; Min RF Frequency (MHz): 800MHz; Max RF Frequency (MHz): 2.5GHz; IQ Freq (MHz): 70MHz; Output P1dB (dBm): 3; DatasheetVersion: RevA; PackageVersion: Nov-2002; PackageReference: RU-16; PackageDescription: 16-Lead Thin Shrink Small Outline Package [TSSOP]; Code_JEDEC: MO-153AB; ComponentLink1Description: Manufacturer URL; ComponentLink1URL: www.analog.com; ComponentLink2Description: Datasheet; ComponentLink2URL: http://www.analog.com/static/imported-files/data_sheets/AD8346.pdf; ComponentLink3Description: Package Specification; ComponentLink3URL: http://www.analog.com/static/imported-files/packages/36244347913743854010197452789RU16.pdf
footprint ADI-RU-16_N (TSOP, 16-Leads, Body 5x4.4mm, Pitch 0.65mm, IPC Medium Density)
footprint ADI-RU-16_L (TSOP, 16-Leads, Body 5x4.4mm, Pitch 0.65mm, IPC High Density)
footprint ADI-RU-16_M (TSOP, 16-Leads, Body 5x4.4mm, Pitch 0.65mm, IPC Low Density)
pins: 1 IBBP (in) "I Channel Baseband Positive Input Pin. Input should be dc-biased to approximately 1.2 V. Nominal characterized ac swing is 1 V p-p (0.7 V to 1.7 V). [see datasheet]", 2 IBBN (in) "I Channel Baseband Positive Input Pin. Input should be dc-biased to approximately 1.2 V. Nominal characterized ac swing is 1 V p-p (0.7 V to 1.7 V). [see datasheet]", 3 COM1 (power) "Ground Pin for the LO phase splitter and LO buffers.", 4 COM1 (power) "Ground Pin for the LO phase splitter and LO buffers.", 5 LOIN (in) "LO Negative Input Pin. Internal dc bias (approximately VPS1 to 800 mV) is supplied. This pin must be ac coupled.", 6 LOIP (in) "LO Positive Input Pin. Internal dc bias (approximately VPS1 to 800 mV) is supplied. This pin must be ac-coupled", 7 VPS1 (power) "Power Supply Pin for the bias cell and LO buffers. This pin should be decoupled using local 100 pF and 0.01 uF capacitors.", 8 ENBL (in) "Enable Pin. A high level enables the device; a low level puts the device in sleep mode.", 9 COM2 (power) "Ground Pin for the input stage of output amplifier.", 10 COM3 (power) "Ground Pin for the output stage of output amplifier.", 11 VOUT (out) "50  ohm DC-Coupled RF Output. User must provide ac coupling on this pin.", 12 VPS2 (power) "Power Supply Pin for baseband input voltage to current converters and mixer core. This pin should be decoupled using local 100 pF and 0.01 uF capacitors.", 13 COM4 (power) "Ground Pin for baseband input voltage to current converters and mixer core.", 14 COM4 (power) "Ground Pin for baseband input voltage to current converters and mixer core.", 15 QBBN (in) "Q Channel Baseband Negative Input. Input should be dc biased to approximately 1.2 V. Nominal characterized ac swing is 1 V p-p. [see datasheet]", 16 QBBP (in) "Q Channel Baseband Negative Input. Input should be dc biased to approximately 1.2 V. Nominal characterized ac swing is 1 V p-p. [see datasheet]"

## AD8346ARUZ
designator U?
0.8 GHz to 2.5 GHz Quadrature Modulator, RU-16, Pb-Free, 96 Tube; Min RF Frequency (MHz): 800MHz; Max RF Frequency (MHz): 2.5GHz; IQ Freq (MHz): 70MHz; Output P1dB (dBm): 3; DatasheetVersion: RevA; PackageVersion: Nov-2002; PackageReference: RU-16; PackageDescription: 16-Lead Thin Shrink Small Outline Package [TSSOP]; Code_JEDEC: MO-153AB; ComponentLink1Description: Manufacturer URL; ComponentLink1URL: www.analog.com; ComponentLink2Description: Datasheet; ComponentLink2URL: http://www.analog.com/static/imported-files/data_sheets/AD8346.pdf; ComponentLink3Description: Package Specification; ComponentLink3URL: http://www.analog.com/static/imported-files/packages/36244347913743854010197452789RU16.pdf
footprint ADI-RU-16_N (TSOP, 16-Leads, Body 5x4.4mm, Pitch 0.65mm, IPC Medium Density)
footprint ADI-RU-16_L (TSOP, 16-Leads, Body 5x4.4mm, Pitch 0.65mm, IPC High Density)
footprint ADI-RU-16_M (TSOP, 16-Leads, Body 5x4.4mm, Pitch 0.65mm, IPC Low Density)
pins: 1 IBBP (in) "I Channel Baseband Positive Input Pin. Input should be dc-biased to approximately 1.2 V. Nominal characterized ac swing is 1 V p-p (0.7 V to 1.7 V). [see datasheet]", 2 IBBN (in) "I Channel Baseband Positive Input Pin. Input should be dc-biased to approximately 1.2 V. Nominal characterized ac swing is 1 V p-p (0.7 V to 1.7 V). [see datasheet]", 3 COM1 (power) "Ground Pin for the LO phase splitter and LO buffers.", 4 COM1 (power) "Ground Pin for the LO phase splitter and LO buffers.", 5 LOIN (in) "LO Negative Input Pin. Internal dc bias (approximately VPS1 to 800 mV) is supplied. This pin must be ac coupled.", 6 LOIP (in) "LO Positive Input Pin. Internal dc bias (approximately VPS1 to 800 mV) is supplied. This pin must be ac-coupled", 7 VPS1 (power) "Power Supply Pin for the bias cell and LO buffers. This pin should be decoupled using local 100 pF and 0.01 uF capacitors.", 8 ENBL (in) "Enable Pin. A high level enables the device; a low level puts the device in sleep mode.", 9 COM2 (power) "Ground Pin for the input stage of output amplifier.", 10 COM3 (power) "Ground Pin for the output stage of output amplifier.", 11 VOUT (out) "50  ohm DC-Coupled RF Output. User must provide ac coupling on this pin.", 12 VPS2 (power) "Power Supply Pin for baseband input voltage to current converters and mixer core. This pin should be decoupled using local 100 pF and 0.01 uF capacitors.", 13 COM4 (power) "Ground Pin for baseband input voltage to current converters and mixer core.", 14 COM4 (power) "Ground Pin for baseband input voltage to current converters and mixer core.", 15 QBBN (in) "Q Channel Baseband Negative Input. Input should be dc biased to approximately 1.2 V. Nominal characterized ac swing is 1 V p-p. [see datasheet]", 16 QBBP (in) "Q Channel Baseband Negative Input. Input should be dc biased to approximately 1.2 V. Nominal characterized ac swing is 1 V p-p. [see datasheet]"

## AD8346ARUZ-REEL
designator U?
0.8 GHz to 2.5 GHz Quadrature Modulator, RU-16, Pb-Free, 2500 Reel; Min RF Frequency (MHz): 800MHz; Max RF Frequency (MHz): 2.5GHz; IQ Freq (MHz): 70MHz; Output P1dB (dBm): 3; DatasheetVersion: RevA; PackageVersion: Nov-2002; PackageReference: RU-16; PackageDescription: 16-Lead Thin Shrink Small Outline Package [TSSOP]; Code_JEDEC: MO-153AB; ComponentLink1Description: Manufacturer URL; ComponentLink1URL: www.analog.com; ComponentLink2Description: Datasheet; ComponentLink2URL: http://www.analog.com/static/imported-files/data_sheets/AD8346.pdf; ComponentLink3Description: Package Specification; ComponentLink3URL: http://www.analog.com/static/imported-files/packages/36244347913743854010197452789RU16.pdf
footprint ADI-RU-16_N (TSOP, 16-Leads, Body 5x4.4mm, Pitch 0.65mm, IPC Medium Density)
footprint ADI-RU-16_L (TSOP, 16-Leads, Body 5x4.4mm, Pitch 0.65mm, IPC High Density)
footprint ADI-RU-16_M (TSOP, 16-Leads, Body 5x4.4mm, Pitch 0.65mm, IPC Low Density)
pins: 1 IBBP (in) "I Channel Baseband Positive Input Pin. Input should be dc-biased to approximately 1.2 V. Nominal characterized ac swing is 1 V p-p (0.7 V to 1.7 V). [see datasheet]", 2 IBBN (in) "I Channel Baseband Positive Input Pin. Input should be dc-biased to approximately 1.2 V. Nominal characterized ac swing is 1 V p-p (0.7 V to 1.7 V). [see datasheet]", 3 COM1 (power) "Ground Pin for the LO phase splitter and LO buffers.", 4 COM1 (power) "Ground Pin for the LO phase splitter and LO buffers.", 5 LOIN (in) "LO Negative Input Pin. Internal dc bias (approximately VPS1 to 800 mV) is supplied. This pin must be ac coupled.", 6 LOIP (in) "LO Positive Input Pin. Internal dc bias (approximately VPS1 to 800 mV) is supplied. This pin must be ac-coupled", 7 VPS1 (power) "Power Supply Pin for the bias cell and LO buffers. This pin should be decoupled using local 100 pF and 0.01 uF capacitors.", 8 ENBL (in) "Enable Pin. A high level enables the device; a low level puts the device in sleep mode.", 9 COM2 (power) "Ground Pin for the input stage of output amplifier.", 10 COM3 (power) "Ground Pin for the output stage of output amplifier.", 11 VOUT (out) "50  ohm DC-Coupled RF Output. User must provide ac coupling on this pin.", 12 VPS2 (power) "Power Supply Pin for baseband input voltage to current converters and mixer core. This pin should be decoupled using local 100 pF and 0.01 uF capacitors.", 13 COM4 (power) "Ground Pin for baseband input voltage to current converters and mixer core.", 14 COM4 (power) "Ground Pin for baseband input voltage to current converters and mixer core.", 15 QBBN (in) "Q Channel Baseband Negative Input. Input should be dc biased to approximately 1.2 V. Nominal characterized ac swing is 1 V p-p. [see datasheet]", 16 QBBP (in) "Q Channel Baseband Negative Input. Input should be dc biased to approximately 1.2 V. Nominal characterized ac swing is 1 V p-p. [see datasheet]"

## AD8346ARUZ-REEL7
designator U?
0.8 GHz to 2.5 GHz Quadrature Modulator, RU-16, Pb-Free, 1000 Reel; Min RF Frequency (MHz): 800MHz; Max RF Frequency (MHz): 2.5GHz; IQ Freq (MHz): 70MHz; Output P1dB (dBm): 3; DatasheetVersion: RevA; PackageVersion: Nov-2002; PackageReference: RU-16; PackageDescription: 16-Lead Thin Shrink Small Outline Package [TSSOP]; Code_JEDEC: MO-153AB; ComponentLink1Description: Manufacturer URL; ComponentLink1URL: www.analog.com; ComponentLink2Description: Datasheet; ComponentLink2URL: http://www.analog.com/static/imported-files/data_sheets/AD8346.pdf; ComponentLink3Description: Package Specification; ComponentLink3URL: http://www.analog.com/static/imported-files/packages/36244347913743854010197452789RU16.pdf
footprint ADI-RU-16_N (TSOP, 16-Leads, Body 5x4.4mm, Pitch 0.65mm, IPC Medium Density)
footprint ADI-RU-16_L (TSOP, 16-Leads, Body 5x4.4mm, Pitch 0.65mm, IPC High Density)
footprint ADI-RU-16_M (TSOP, 16-Leads, Body 5x4.4mm, Pitch 0.65mm, IPC Low Density)
pins: 1 IBBP (in) "I Channel Baseband Positive Input Pin. Input should be dc-biased to approximately 1.2 V. Nominal characterized ac swing is 1 V p-p (0.7 V to 1.7 V). [see datasheet]", 2 IBBN (in) "I Channel Baseband Positive Input Pin. Input should be dc-biased to approximately 1.2 V. Nominal characterized ac swing is 1 V p-p (0.7 V to 1.7 V). [see datasheet]", 3 COM1 (power) "Ground Pin for the LO phase splitter and LO buffers.", 4 COM1 (power) "Ground Pin for the LO phase splitter and LO buffers.", 5 LOIN (in) "LO Negative Input Pin. Internal dc bias (approximately VPS1 to 800 mV) is supplied. This pin must be ac coupled.", 6 LOIP (in) "LO Positive Input Pin. Internal dc bias (approximately VPS1 to 800 mV) is supplied. This pin must be ac-coupled", 7 VPS1 (power) "Power Supply Pin for the bias cell and LO buffers. This pin should be decoupled using local 100 pF and 0.01 uF capacitors.", 8 ENBL (in) "Enable Pin. A high level enables the device; a low level puts the device in sleep mode.", 9 COM2 (power) "Ground Pin for the input stage of output amplifier.", 10 COM3 (power) "Ground Pin for the output stage of output amplifier.", 11 VOUT (out) "50  ohm DC-Coupled RF Output. User must provide ac coupling on this pin.", 12 VPS2 (power) "Power Supply Pin for baseband input voltage to current converters and mixer core. This pin should be decoupled using local 100 pF and 0.01 uF capacitors.", 13 COM4 (power) "Ground Pin for baseband input voltage to current converters and mixer core.", 14 COM4 (power) "Ground Pin for baseband input voltage to current converters and mixer core.", 15 QBBN (in) "Q Channel Baseband Negative Input. Input should be dc biased to approximately 1.2 V. Nominal characterized ac swing is 1 V p-p. [see datasheet]", 16 QBBP (in) "Q Channel Baseband Negative Input. Input should be dc biased to approximately 1.2 V. Nominal characterized ac swing is 1 V p-p. [see datasheet]"